# EAGLE library part DRA818V (library UPRA_RF)
VHF FM module
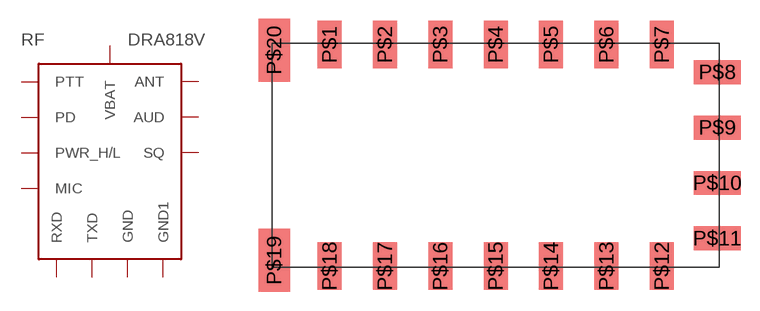
[diagram p3: symbol with the pads of DRA8XXZ; footprint DRA8XXZ]

Designator prefix RF

## DRA818V  [DRA8XXZ]
P$1  SQ
P$3  AUD
P$5  PTT
P$6  PD
P$7  PWR_H/L
P$8  VBAT
P$9  GND
P$10  GND1
P$12  ANT
P$16  RXD
P$17  TXD
P$18  MIC

## Footprint DRA8XXZ (pad centres in mm)
smd 1.93 x 3.81: P$1 -13.38,8.92; P$2 -8.92,8.92; P$3 -4.46,8.92; P$4 0,8.92; P$5 4.46,8.92; P$6 8.92,8.92; P$7 13.38,8.92; P$12 13.38,-8.92; P$13 8.92,-8.92; P$14 4.46,-8.92; P$15 0,-8.92; P$16 -4.46,-8.92; P$17 -8.92,-8.92; P$18 -13.38,-8.92
smd 3.81 x 1.93: P$8 17.84,6.69; P$9 17.84,2.23; P$10 17.84,-2.23; P$11 17.84,-6.69
smd 2.54 x 5.08: P$19 -17.84,-8.46; P$20 -17.84,8.46